# Altium integrated library WENSHI.IntLib: 64 symbols
Pins are listed as number, name and electrical type; pins without a type are passive.

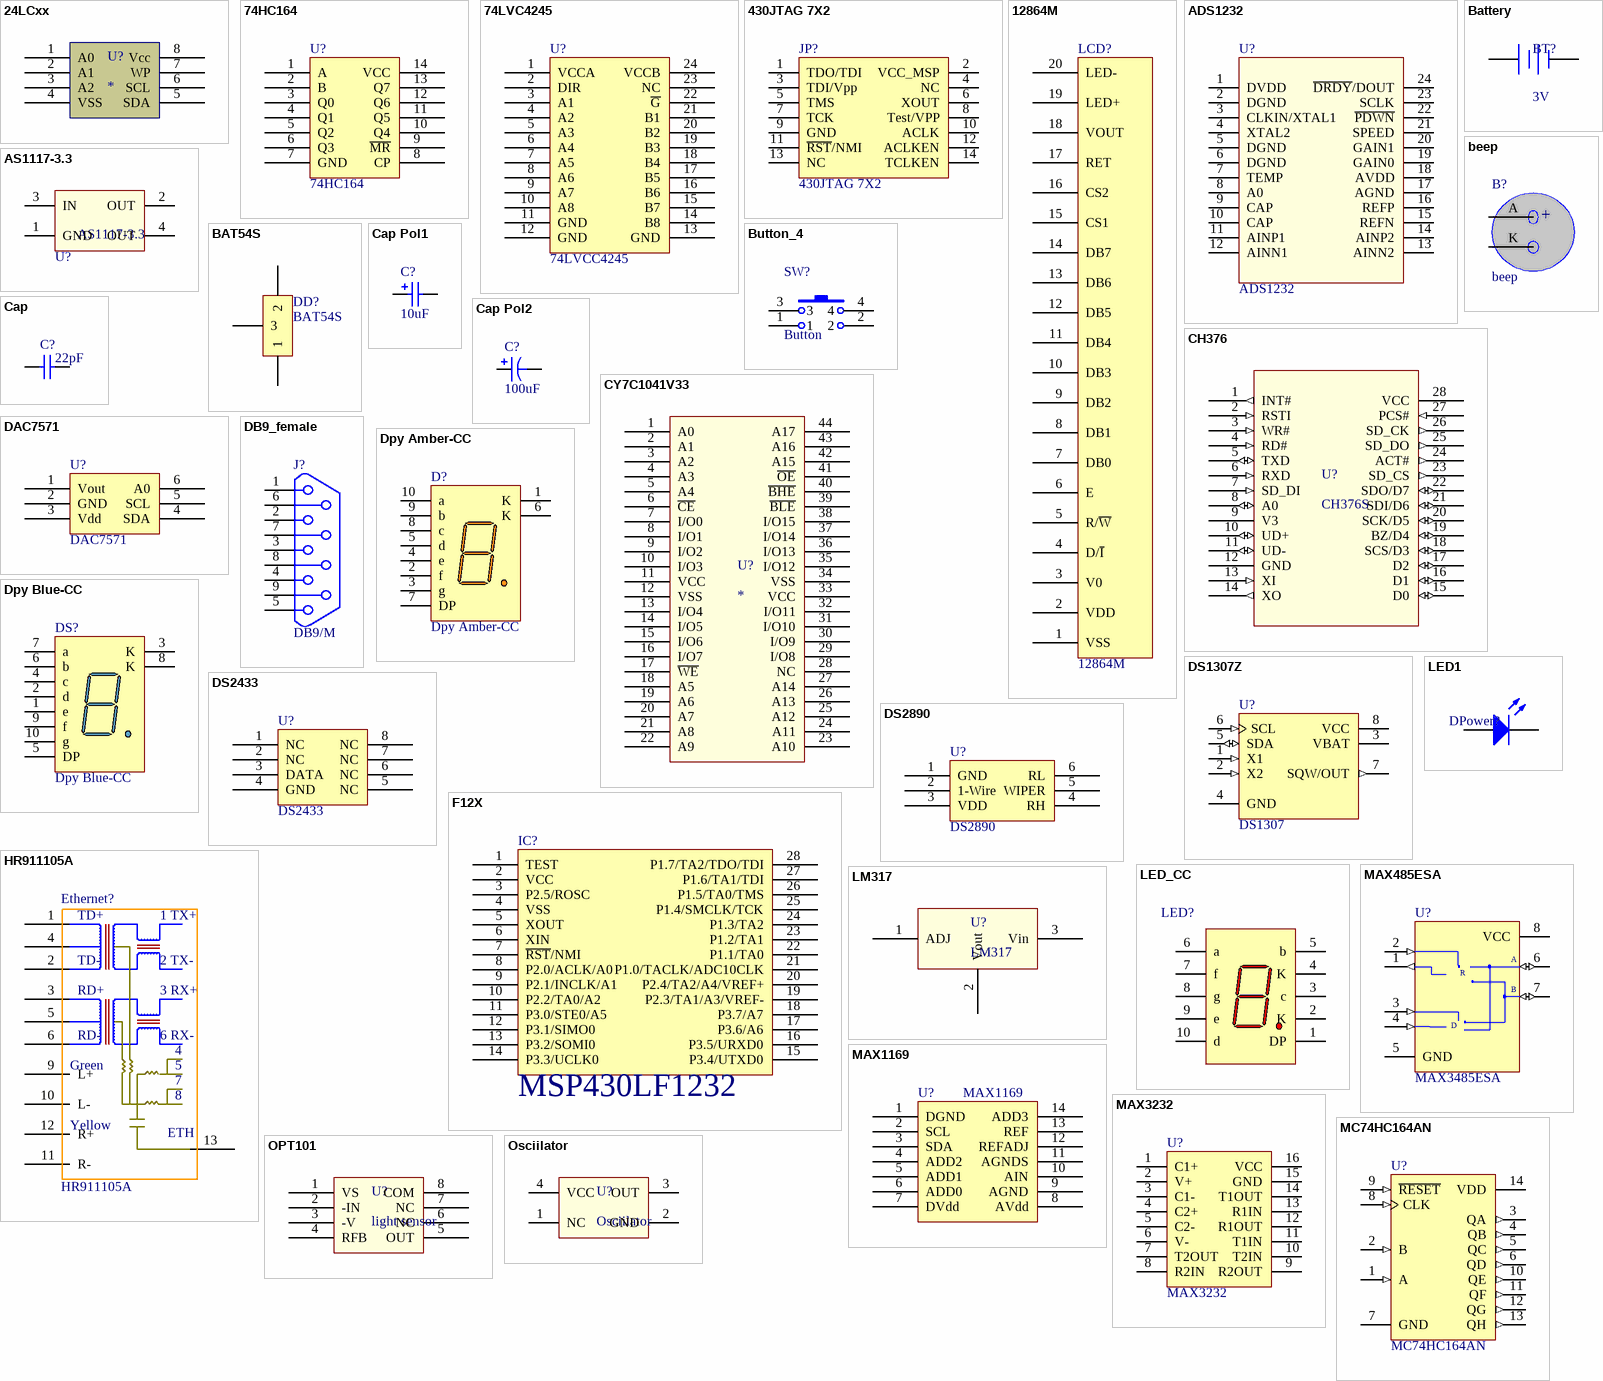
[diagram p0: symbols 24LCxx to Osciilator]

## 24LCxx
designator U?
24LCxx
footprint DIP-8
pins: 1 A0, 2 A1, 3 A2, 4 VSS, 5 SDA, 6 SCL, 7 WP, 8 Vcc

## 74HC164
designator U?
footprint D014 (Small Outline; 14 Leads; Body Width 3.9 mm; Pitch 1.27 mm)
footprint D014 (Small Outline; 14 Leads; Body Width 3.9 mm; Pitch 1.27 mm)
pins: 1 A, 2 B, 3 Q0, 4 Q1, 5 Q2, 6 Q3, 7 GND, 8 CP, 9 ~{MR}, 10 Q4, 11 Q5, 12 Q6, 13 Q7, 14 VCC

## 74LVC4245
designator U?, comment 74LVCC4245
footprint My_SSO-G24/C6.8
pins: 1 VCCA, 2 DIR, 3 A1, 4 A2, 5 A3, 6 A4, 7 A5, 8 A6, 9 A7, 10 A8, 11 GND, 12 GND, 13 GND, 14 B8, 15 B7, 16 B6, 17 B5, 18 B4, 19 B3, 20 B2, 21 B1, 22 ~{G}, 23 NC, 24 VCCB

## 430JTAG 7X2
designator JP?
Header, 7-Pin, Dual row; Revision: 17-Jul-2002: Re-released for DXP Platform.; Publisher: Altium Limited
footprint MyHDR2X7
signal-integrity model Connector
pins: 1 TDO/TDI, 2 VCC_MSP, 3 TDI/Vpp, 4 NC, 5 TMS, 6 XOUT, 7 TCK, 8 Test/VPP, 9 GND, 10 ACLK, 11 ~{RST}/NMI, 12 ACLKEN, 13 NC, 14 TCLKEN

## 12864M
designator LCD?
footprint MY12864
pins: 1 VSS, 2 VDD, 3 V0, 4 D/~{I}, 5 R/~{W}, 6 E, 7 DB0, 8 DB1, 9 DB2, 10 DB3, 11 DB4, 12 DB5, 13 DB6, 14 DB7, 15 CS1, 16 CS2, 17 RET, 18 VOUT, 19 LED+, 20 LED-

## ADS1232
designator U?
footprint SOP24
pins: 1 DVDD, 2 DGND, 3 CLKIN/XTAL1, 4 XTAL2, 5 DGND, 6 DGND, 7 TEMP, 8 A0, 9 CAP, 10 CAP, 11 AINP1, 12 AINN1, 13 AINN2, 14 AINP2, 15 REFN, 16 REFP, 17 AGND, 18 AVDD, 19 GAIN0, 20 GAIN1, 21 SPEED, 22 ~{PDWN}, 23 SCLK, 24 ~{DRDY}/DOUT

## AS1117-3.3
designator U?
footprint SOT-223
pins: 1 GND, 2 OUT, 3 IN, 4 OUT

## BAT54S
designator DD?
footprint Model Name (Footprint not found)
footprint SO-G3
pins: 1, 2, 3

## Battery
designator BT?, comment 3V
Multicell Battery; Published: 24-Mar-1999; Revision: July-2002: Re-released for DXP Platform.; Publisher: Altium Limited
footprint BTAY
footprint BigBattery (KKK measured)
pins: 1 +, 2 -

## beep
designator B?
footprint buzzer
pins: A, K
text: +

## Button_4
designator SW?, comment Button
footprint SW-6
pins: 1, 2, 3, 4

## Cap
designator C?  value 22pF  (hidden comment: Cap)
Capacitor; Published: 8-Jun-2000; Revision: July-2002: Re-released for DXP Platform.; Publisher: Altium Limited
footprint C0805
simulation model CAP (Capacitor)
signal-integrity model Cap
footprint CAPR5.08-7.8X3.2
footprint CAPR2.54-5.1X3.2
pins: 1, 2

## Cap Pol1
designator C?  value 10uF  (hidden comment: Cap Pol1)
Polarized Capacitor (Radial); Published: 8-Jun-2000; Revision: July-2002: Re-released for DXP Platform.; Publisher: Altium Limited
footprint C5.3
simulation model CAP (Capacitor)
signal-integrity model Cap Pol
footprint CAPPR1.5-4X5
footprint CAPPR1.27-1.96X4.06
footprint CAPPR2-5X6.8
footprint CAPPR5-5X5
footprint CAPPR7.5-16X35
pins: 1, 2

## Cap Pol2
designator C?  value 100uF  (hidden comment: Cap Pol2)
Polarized Capacitor (Axial); Published: 8-Jun-2000; LatestRevisionDate: 17-Jul-2002; LatestRevisionNote: Re-released for DXP Platform.; Publisher: Altium Limited
footprint POLAR0.8 (Polarized Capacitor (Axial); 2 Leads)
footprint CAPPA14.05-10.5x6.3 (Capacitor, Axial, Polarised; Body 10.5 x 6.3 mm (LxDia. max), Lead Dia. 0.6 mm (typ))
footprint CAPPA23.6-18.5x8.5 (Capacitor, Axial, Polarised; Body 18.5 x 8.5 mm (LxDia. max), Lead Dia. 0.8 mm (typ))
footprint CAPPA31.6-26.5x12.5 (Capacitor, Axial, Polarised; Body 26.5 x 12.5 mm (LxDia. max), Lead Dia. 0.8 mm (typ))
footprint CAPPA35.6-30.5x18.5 (Capacitor, Axial, Polarised; Body 30.5 x 18.5 mm (LxDia. max), Lead Dia. 0.8 mm (typ))
footprint CAPPA46.1-41x21.5 (Capacitor, Axial, Polarised; Body 41 x 21.5 mm (LxDia. max), Lead Dia. 0.8 mm (typ))
simulation model CAP (Capacitor)
signal-integrity model Cap Pol
footprint CE3/6/.6
footprint CE2/6/.5
pins: 1, 2
1 alternate drawing of the same symbol

## CH376
designator U?, comment CH376S
footprint SOP28
pins: 1 INT# (out), 2 RSTI (in), 3 WR# (in), 4 RD# (in), 5 TXD (io), 6 RXD (in), 7 SD_DI (in), 8 A0 (io), 9 V3 (power), 10 UD+ (io), 11 UD- (io), 12 GND (power), 13 XI (in), 14 XO (out), 15 D0 (io), 16 D1 (io), 17 D2 (io), 18 SCS/D3 (io), 19 BZ/D4 (io), 20 SCK/D5 (io), 21 SDI/D6 (io), 22 SDO/D7 (io), 23 SD_CS (out), 24 ACT# (out), 25 SD_DO (out), 26 SD_CK (out), 27 PCS# (in), 28 VCC (power)

## CY7C1041V33
designator U?
footprint SOP44
pins: 1 A0, 2 A1, 3 A2, 4 A3, 5 A4, 6 ~{CE}, 7 I/O0, 8 I/O1, 9 I/O2, 10 I/O3, 11 VCC, 12 VSS, 13 I/O4, 14 I/O5, 15 I/O6, 16 I/O7, 17 ~{WE}, 18 A5, 19 A6, 20 A7, 21 A8, 22 A9, 23 A10, 24 A11, 25 A12, 26 A13, 27 A14, 28 NC, 29 I/O8, 30 I/O9, 31 I/O10, 32 I/O11, 33 VCC, 34 VSS, 35 I/O12, 36 I/O13, 37 I/O14, 38 I/O15, 39 ~{BLE}, 40 ~{BHE}, 41 ~{OE}, 42 A15, 43 A16, 44 A17

## DAC7571
designator U?
footprint SOT23-6 (SOT-457/SC-74; 6 Leads; Body 3 x 3 mm, inc. leads (LxW max))
pins: 1 Vout, 2 GND, 3 Vdd, 4 SDA, 5 SCL, 6 A0

## DB9_female
designator J?, comment DB9/M
footprint DB9_female (Connector; D Subminiature; 9 Position; Right Angle; Pitch 1.385 mm)
pins: 1, 2, 3, 4, 5, 6, 7, 8, 9

## Dpy Amber-CC
designator D?
7.6 mm Black Surface 7-Segment Display: CC, RH DP; Package Information: Latest Revision: 19-Feb-2002; Min. Intensity: 354 ucd; Note: IF = 5 mA; Colour: Orange; Note: Pins 1 and 6 are redundant Cathodes.; Datasheet: Latest Revision: 19-Feb-2002; Package Reference: A; Publisher: Altium Limited
footprint LEDDIP-10/C5.08
simulation model AMBERCC (Spice Subcircuit)
pins: 1 K "Cathode", 2 f "Anode", 3 g "Anode", 4 e "Anode", 5 d "Anode", 6 K "Cathode", 7 DP "Anode", 8 c "Anode", 9 b "Anode", 10 a "Anode"

## Dpy Blue-CC
designator DS?
14.2 mm General Purpose Blue 7-Segment Display: CC, RH DP, Gray Surface; MinimumIntensity: 2020 ucd; Note: IF = 10 mA; Published: 8-Jun-2000; LatestRevisionDate: 17-Dec-2003; LatestRevisionNote: Schematic revised, PCB Footprint replaced.; DatasheetDocument: 24-Sep-2002; PackageDocument: 24-Sep-2002; PackageReference: H; Publisher: Altium Limited; Colour: Blue; ComponentLink1Description: Manufacturer Link; ComponentLink1URL: http://www.agilent.com/
footprint LEDDIP_10/38GND (LED, 7-Segment Display, 14.2 mm, RHD; 10 Leads; Row Space 15.24 mm; Pitch 2.54 mm)
simulation model HDSP_503B (SUBCKT)
pins: 1 e "Anode", 2 d "Anode", 3 K "Common Cathode", 4 c "Anode", 5 DP "Anode", 6 b "Anode", 7 a "Anode", 8 K "Common Cathode", 9 f "Anode", 10 g "Anode"

## DS1307Z
designator U?, comment DS1307
64 X 8 Serial Real-Time Clock; Package Information: Latest Revision: 1999; Published: 13-Oct-2000; Revision: 17-Jul-2002: Re-released for DXP Platform.; Datasheet: Latest Revision: 10-Aug-1999; Package Reference: SOIC8N; Publisher: Altium Limited
footprint SOIC8N (Small Outline; 8 Leads; Body Width 3.9 mm; Pitch 1.27 mm)
pins: 1 X1 (in), 2 X2 (in), 3 VBAT (power), 4 GND (power), 5 SDA (io), 6 SCL (in), 7 SQW/OUT (out), 8 VCC (power)

## DS2433
designator U?
footprint SOIC8W (Small Outline; 8 Leads; Body Width 5.3 mm; Pitch 1.27 mm)
pins: 1 NC, 2 NC, 3 DATA, 4 GND, 5 NC, 6 NC, 7 NC, 8 NC

## DS2890
designator U?
1-Wire Digital Potentiometer,6-pin TSOC; Value: 100K
footprint TSOC6 (Small Outline; 6 C-Bend Leads; Body Width 3.8 mm; Pitch 1.27 mm)
pins: 1 GND, 2 1-Wire, 3 VDD, 4 RH, 5 WIPER, 6 RL

## F12X
designator IC?, comment MSP430LF1232
footprint PW028forMy1232
pins: 1 TEST, 2 VCC, 3 P2.5/ROSC, 4 VSS, 5 XOUT, 6 XIN, 7 ~{RST}/NMI, 8 P2.0/ACLK/A0, 9 P2.1/INCLK/A1, 10 P2.2/TA0/A2, 11 P3.0/STE0/A5, 12 P3.1/SIMO0, 13 P3.2/SOMI0, 14 P3.3/UCLK0, 15 P3.4/UTXD0, 16 P3.5/URXD0, 17 P3.6/A6, 18 P3.7/A7, 19 P2.3/TA1/A3/VREF-, 20 P2.4/TA2/A4/VREF+, 21 P1.0/TACLK/ADC10CLK, 22 P1.1/TA0, 23 P1.2/TA1, 24 P1.3/TA2, 25 P1.4/SMCLK/TCK, 26 P1.5/TA0/TMS, 27 P1.6/TA1/TDI, 28 P1.7/TA2/TDO/TDI

## HR911105A
designator Ethernet?
footprint HR911105A
pins: 1, 2, 3, 4, 5, 6, 9 L+, 10 L-, 11 R-, 12 R+, 13
text: TD+; 1 TX+; TD-; 2 TX-; RD+; 3 RX+; RD-; 6 RX-; Green; 7; 8; Yellow; ETH

## LED1
designator DPower?  (value not drawn)
Typical RED GaAs LED; Published: 8-Jun-2000; LatestRevisionDate: 08-Jul-2005; LatestRevisionNote: Mech Layer 1 removed.; PackageReference: LED-1; Publisher: Altium Limited
footprint LED
simulation model LED1 (Diode)
pins: 1 A, 2 K

## LED_CC
designator LED?, comment LED  (value not drawn)
footprint LEDDIP-10/C5.31
footprint led7x11
pins: 1 DP "Anode", 2 K "Cathode", 3 c "Anode", 4 K "Cathode", 5 b "Anode", 6 a "Anode", 7 f "Anode", 8 g "Anode", 9 e "Anode", 10 d "Anode"

## LM317
designator U?
footprint TO-220
pins: 1 ADJ (power), 2 Vout (power), 3 Vin (power)

## MAX485ESA
designator U?, comment MAX3485ESA
Low-Power, Slew-Rate-Limited RS-485/RS-422 Transceiver; Code - JEDEC: MS-012-AA; Code - IPC: SO8; Published: 16-Jan-2001; Revision: 17-Jul-2002: Re-released for DXP Platform.; Datasheet: Latest Revision: Feb-1996; Package Reference: NSO8; Publisher: Altium Limited
footprint NSO8 (Small Outline; 8 Leads; Body Width 3.9 mm; Pitch 1.27 mm)
pins: 1 RO (out), 2 ~{RE} (in), 3 DE (in), 4 DI (in), 5 GND (power), 6 A (io), 7 B (io), 8 VCC (power)
text: R; D

## MAX1169
designator U?
58.6ksps, 16-Bit, / 2-Wire Serial ADC in a 14-Pin TSSOP
footprint TSSOP14 (Shrink Small Outline; 14 Leads; Body Width 4.4 mm; Pitch 0.65 mm)
pins: 1 DGND, 2 SCL, 3 SDA, 4 ADD2, 5 ADD1, 6 ADD0, 7 DVdd, 8 AVdd, 9 AGND, 10 AIN, 11 AGNDS, 12 REFADJ, 13 REF, 14 ADD3

## MAX3232
designator U?
footprint SOP16
pins: 1 C1+, 2 V+, 3 C1-, 4 C2+, 5 C2-, 6 V-, 7 T2OUT, 8 R2IN, 9 R2OUT, 10 T2IN, 11 T1IN, 12 R1OUT, 13 R1IN, 14 T1OUT, 15 GND, 16 VCC

## MC74HC164AN
designator U?
8-Bit Serial Input / Parallel-Output Shift Register; Package Information: Latest Revision: 1995; Published: 15-Apr-2002; Datasheet: Latest Revision: Mar-2000; Package Reference: 646-06; Publisher: Altium Limited
footprint D14T3-1
signal-integrity model MC74HC164AN
pins: 1 A (in), 2 B (in), 3 QA (out), 4 QB (out), 5 QC (out), 6 QD (out), 7 GND (power), 8 CLK (in), 9 ~{RESET} (in), 10 QE (out), 11 QF (out), 12 QG (out), 13 QH (out), 14 VDD (power)

## OPT101
designator U?, comment light sensor
OPT101
footprint DIP-8
pins: 1 VS (power), 2 -IN (power), 3 -V (power), 4 RFB (power), 5 OUT (power), 6 NC (power), 7 NC (power), 8 COM (power)

## Osciilator
designator U?
footprint Oscillator
pins: 1 NC, 2 GND, 3 OUT, 4 VCC

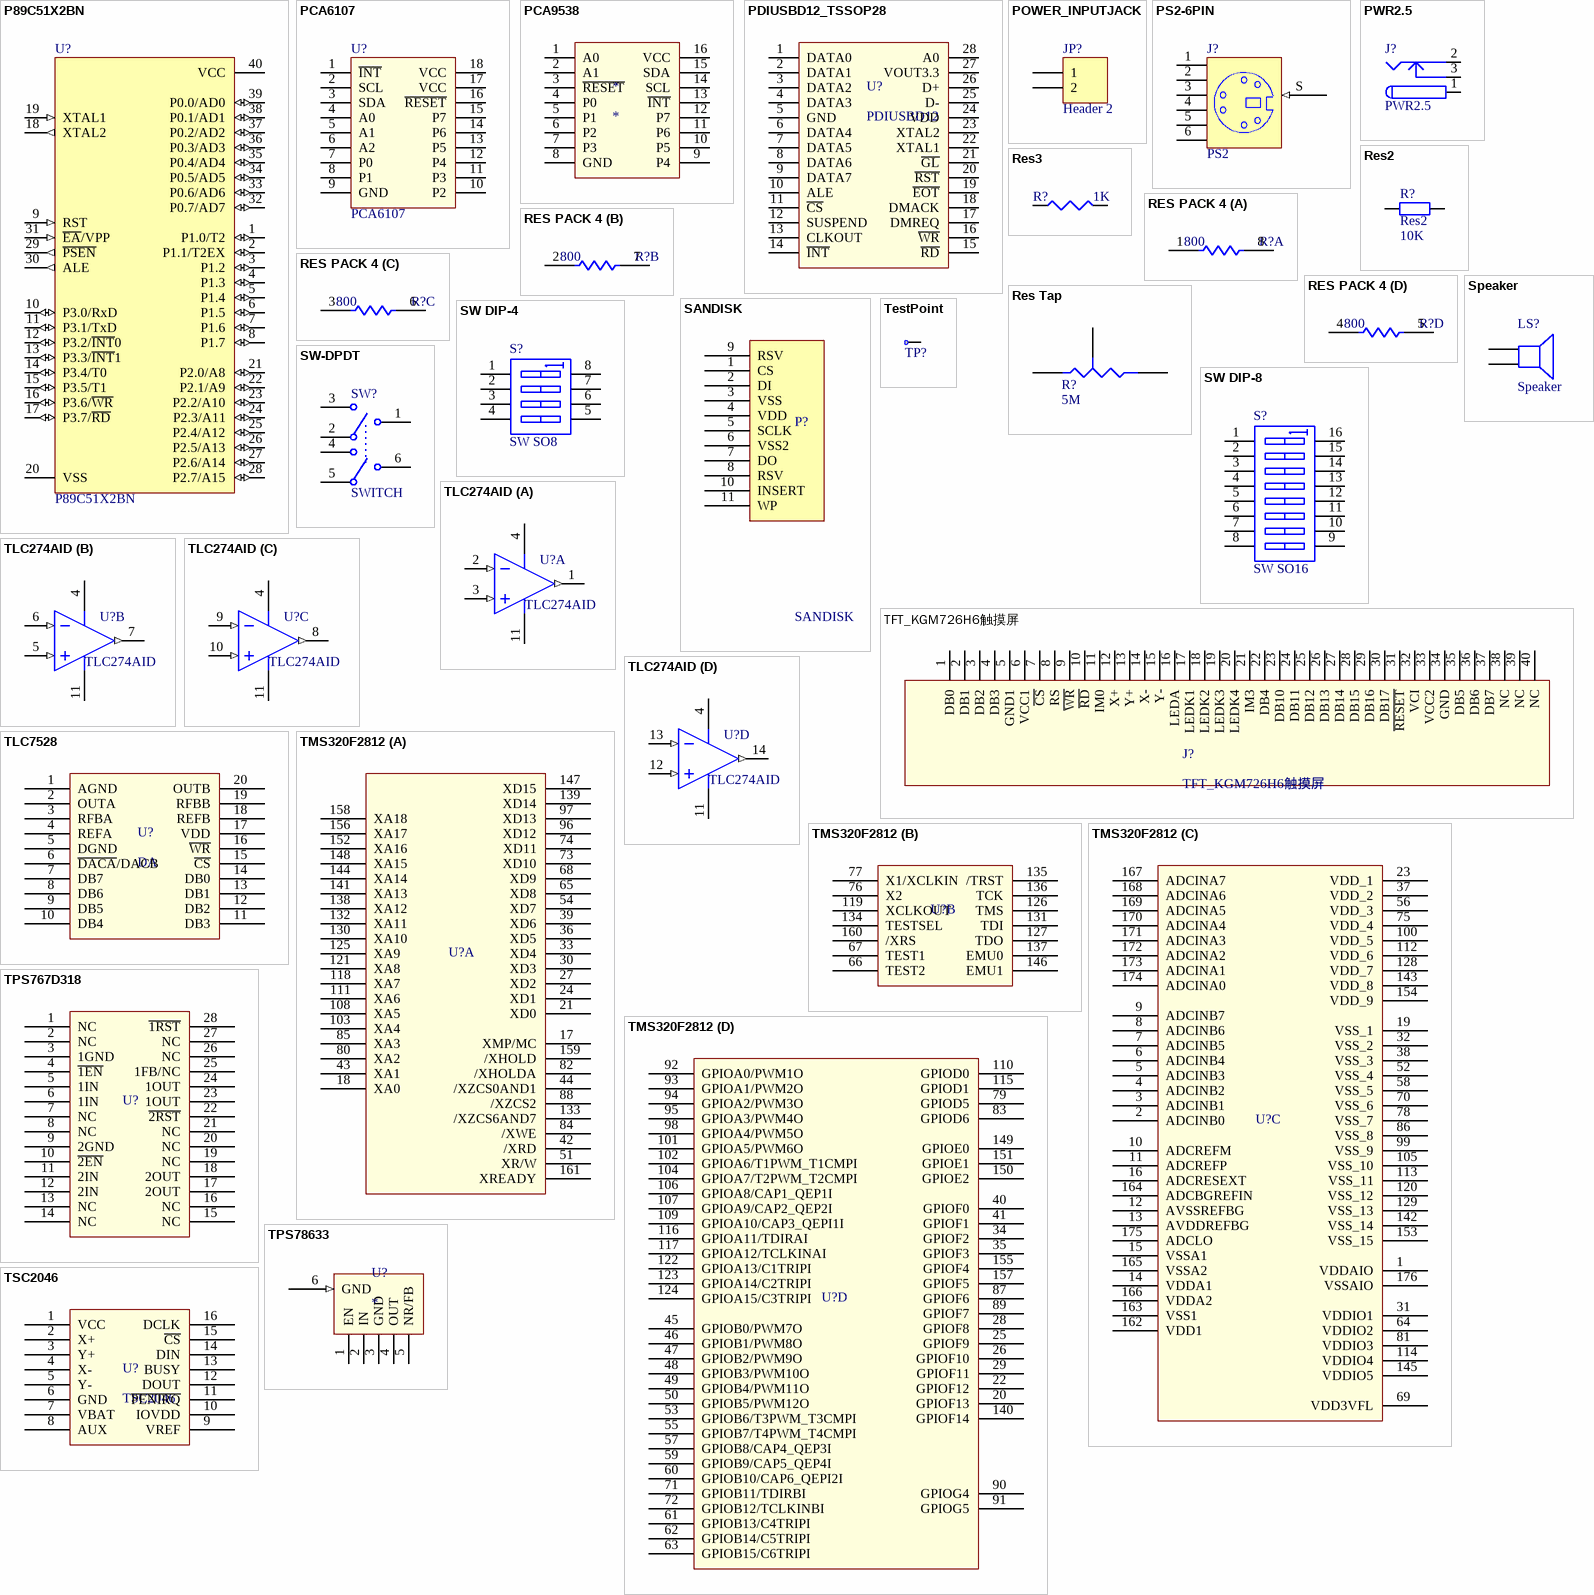
[diagram p1: symbols P89C51X2BN to TSC2046]

## P89C51X2BN
designator U?
80C51 8-Bit Flash Microcontroller Family, 4 kB Flash; Package Information: Latest Revision: Aug-2000; Code - JEDEC: MO-015; Published: 21-May-2003; Datasheet: Latest Revision: 5-Jun-2002; Package Reference: SOT129-1; Publisher: Altium Limited
footprint SOT129-1 (Footprint not found)
pins: 1 P1.0/T2 (io), 2 P1.1/T2EX (io), 3 P1.2 (io), 4 P1.3 (io), 5 P1.4 (io), 6 P1.5 (io), 7 P1.6 (io), 8 P1.7 (io), 9 RST (in), 10 P3.0/RxD (io), 11 P3.1/TxD (io), 12 P3.2/~{INT}0 (io), 13 P3.3/~{INT}1 (io), 14 P3.4/T0 (io), 15 P3.5/T1 (io), 16 P3.6/~{WR} (io), 17 P3.7/~{RD} (io), 18 XTAL2 (out), 19 XTAL1 (in), 20 VSS (power), 21 P2.0/A8 (io), 22 P2.1/A9 (io), 23 P2.2/A10 (io), 24 P2.3/A11 (io), 25 P2.4/A12 (io), 26 P2.5/A13 (io), 27 P2.6/A14 (io), 28 P2.7/A15 (io), 29 ~{PSEN} (out), 30 ALE (out), 31 ~{EA}/VPP (in), 32 P0.7/AD7 (io), 33 P0.6/AD6 (io), 34 P0.5/AD5 (io), 35 P0.4/AD4 (io), 36 P0.3/AD3 (io), 37 P0.2/AD2 (io), 38 P0.1/AD1 (io), 39 P0.0/AD0 (io), 40 VCC (power)

## PCA6107
designator U?
footprint SOP18
pins: 1 ~{INT}, 2 SCL, 3 SDA, 4 A0, 5 A1, 6 A2, 7 P0, 8 P1, 9 GND, 10 P2, 11 P3, 12 P4, 13 P5, 14 P6, 15 P7, 16 ~{RESET}, 17 VCC, 18 VCC

## PCA9538
designator *
pins: 1 A0, 2 A1, 3 ~{RESET}, 4 P0, 5 P1, 6 P2, 7 P3, 8 GND, 9 P4, 10 P5, 11 P6, 12 P7, 13 ~{INT}, 14 SCL, 15 SDA, 16 VCC

## PDIUSBD12_TSSOP28
designator U?, comment PDIUSBD12
USB slave
footprint TSOP28
pins: 1 DATA0, 2 DATA1, 3 DATA2, 4 DATA3, 5 GND, 6 DATA4, 7 DATA5, 8 DATA6, 9 DATA7, 10 ALE, 11 ~{CS}, 12 SUSPEND, 13 CLKOUT, 14 ~{INT}, 15 ~{RD}, 16 ~{WR}, 17 DMREQ, 18 DMACK, 19 ~{EOT}, 20 ~{RST}, 21 ~{GL}, 22 XTAL1, 23 XTAL2, 24 VDD, 25 D-, 26 D+, 27 VOUT3.3, 28 A0

## POWER_INPUTJACK
designator JP?, comment Header 2
Header, 2-Pin; Revision: 17-Jul-2002: Re-released for DXP Platform.; Publisher: Altium Limited
footprint DCJACK
signal-integrity model Connector
pins: 1, 2

## PS2-6PIN
designator J?, comment PS2
6 Pin Through Hole PS2 Socket (Kycon P/N); Published: 17-Dec-2003; Publisher: Altium Limited
footprint MyPS2-6PIN
signal-integrity model Connector
pins: 1, 2, 3, 4, 5, 6, S (in)

## PWR2.5
designator J?
Low Voltage Power Supply Connector; Published: 17-Dec-2003; DatasheetDocument: 09-May-2002; Publisher: Altium Limited; ComponentLink1Description: Manufacturer Link; ComponentLink1URL: http://domino.kycon.com/internet/Products.html
footprint DCJACK
signal-integrity model Connector
pins: 1 (power), 2 (power), 3 (power)

## Res2
designator R?  value 10K
Resistor; Published: 8-Jun-2000; Revision: July-2002: Re-released for DXP Platform.; Publisher: Altium Limited
footprint c0805
simulation model RESISTOR (Resistor)
signal-integrity model Res
pins: 1, 2
1 alternate drawing of the same symbol

## Res3
designator R?  value 1K  (hidden comment: Res3)
Resistor; Published: 8-Jun-2000; Revision: July-2002: Re-released for DXP Platform.; Publisher: Altium Limited
footprint C1608-0603 (Resistor; 2 Leads)
simulation model RESISTOR (Resistor)
signal-integrity model Res
footprint CR3225-1210
footprint CR5025-2010
footprint CR6332-2512
pins: 1, 2
1 alternate drawing of the same symbol

## RES PACK 4
designator R?  value 800  (hidden comment: RES PACK 4)
Resistor Array - Parts; Code - JEDEC: MS-012-AC; Code - IPC: SO16; Published: 24-Mar-1999; Revision: July-2002: Re-released for DXP Platform.; Publisher: Altium Limited
footprint SOP8
simulation model RESISTOR (Resistor)
signal-integrity model Res Pack
part A pins: 1, 8
part B pins: 2, 7
part C pins: 3, 6
part D pins: 4, 5

## Res Tap
designator R?  value 5M  (hidden comment: Res Tap)
Tapped Resistor; Set Position: 0.5; Published: 24-Mar-1999; Revision: July-2002: Re-released for DXP Platform.; Publisher: Altium Limited
footprint RVAR
simulation model POT (Potentiometer)
signal-integrity model Res Tap
pins: 1 A, 2 B, 3 TAP
1 alternate drawing of the same symbol

## SANDISK
designator P?
footprint SDCARD
pins: 1 CS, 2 DI, 3 VSS, 4 VDD, 5 SCLK, 6 VSS2, 7 DO, 8 RSV, 9 RSV, 10 INSERT, 11 WP

## Speaker
designator LS?
Loudspeaker; Manufacturer: Generic Components; Published: 1999
footprint FMQ
pins: 1, 2

## SW DIP-4
designator S?, comment SW SO8
DIP Switch; Code - JEDEC: MS-012-AA; Published: 24-Mar-1999; Revision: July-2002: Re-released for DXP Platform.; Publisher: Altium Limited; Code - IPC: SO8
footprint SW-DIP2x4
simulation model dpsw4 (Spice Subcircuit)
pins: 1 A1, 2 A2, 3 A3, 4 A4, 5 B4, 6 B3, 7 B2, 8 B1

## SW DIP-8
designator S?, comment SW SO16
DIP Switch; Published: 24-Mar-1999; Revision: July-2002: Re-released for DXP Platform.; Publisher: Altium Limited
footprint SO-G16
simulation model dpsw8 (Spice Subcircuit)
pins: 1 A1, 2 A2, 3 A3, 4 A4, 5 A5, 6 A6, 7 A7, 8 A8, 9 B8, 10 B7, 11 B6, 12 B5, 13 B4, 14 B3, 15 B2, 16 B1

## SW-DPDT
designator SW?, comment SWITCH
footprint DPDT-6
pins: 1, 2, 3, 4, 5, 6

## TestPoint
designator TP?  (value not drawn)
TespPoint
footprint TESTPOINT
pins: 1 TP

## TFT_KGM726H6触摸屏
designator J?
footprint tft_0.5_37 (529)
pins: 1 DB0, 2 DB1, 3 DB2, 4 DB3, 5 GND1, 6 VCC1, 7 ~{CS}, 8 RS, 9 ~{WR}, 10 ~{RD}, 11 IM0, 12 X+, 13 Y+, 14 X-, 15 Y-, 16 LEDA, 17 LEDK1, 18 LEDK2, 19 LEDK3, 20 LEDK4, 21 IM3, 22 DB4, 23 DB10, 24 DB11, 25 DB12, 26 DB13, 27 DB14, 28 DB15, 29 DB16, 30 DB17, 31 ~{RESET}, 32 VCI, 33 VCC2, 34 GND, 35 DB5, 36 DB6, 37 DB7, 38 NC, 39 NC, 40 NC

## TLC274AID
designator U?
LinCMOS Precision Quad Operational Amplifier; Package Information: Latest Revision: Jan-1998; Published: 15-Apr-2002; Datasheet: Linear Circuits Data Book 1989 Volume 1 (Aug-1988); Package Reference: D014; Publisher: Altium Limited
footprint D014 (Small Outline; 14 Leads; Body Width 3.9 mm; Pitch 1.27 mm)
footprint MyD014
pins on every part: 4 V+ (power), 11 V- (power)
part A pins: 1 OUT (out), 2 IN- (in), 3 IN+ (in)
part B pins: 5 IN+ (in), 6 IN- (in), 7 OUT (out)
part C pins: 8 OUT (out), 9 IN- (in), 10 IN+ (in)
part D pins: 12 IN+ (in), 13 IN- (in), 14 OUT (out)

## TLC7528
designator U?, comment DA
TLC7528
footprint DIP-20
pins: 1 AGND (power), 2 OUTA (power), 3 RFBA (power), 4 REFA (power), 5 DGND (power), 6 ~{DACA}/DACB (power), 7 DB7 (power), 8 DB6 (power), 9 DB5 (power), 10 DB4 (power), 11 DB3 (power), 12 DB2 (power), 13 DB1 (power), 14 DB0 (power), 15 ~{CS} (power), 16 ~{WR} (power), 17 VDD (power), 18 REFB (power), 19 RFBB (power), 20 OUTB (power)

## TMS320F2812
designator U?, comment DSP  (value not drawn)
footprint Quad176_2812
part A pins: 17 XMP/MC, 18 XA0, 21 XD0, 24 XD1, 27 XD2, 30 XD3, 33 XD4, 36 XD5, 39 XD6, 42 /XRD, 43 XA1, 44 /XZCS0AND1, 51 XR/W, 54 XD7, 65 XD8, 68 XD9, 73 XD10, 74 XD11, 80 XA2, 82 /XHOLDA, 84 /XWE, 85 XA3, 88 /XZCS2, 96 XD12, 97 XD13, 103 XA4, 108 XA5, 111 XA6, 118 XA7, 121 XA8, 125 XA9, 130 XA10, 132 XA11, 133 /XZCS6AND7, 138 XA12, 139 XD14, 141 XA13, 144 XA14, 147 XD15, 148 XA15, 152 XA16, 156 XA17, 158 XA18, 159 /XHOLD, 161 XREADY
part B pins: 66 TEST2, 67 TEST1, 76 X2, 77 X1/XCLKIN, 119 XCLKOUT, 126 TMS, 127 TDO, 131 TDI, 134 TESTSEL, 135 /TRST, 136 TCK, 137 EMU0, 146 EMU1, 160 /XRS
part C pins: 1 VDDAIO, 2 ADCINB0, 3 ADCINB1, 4 ADCINB2, 5 ADCINB3, 6 ADCINB4, 7 ADCINB5, 8 ADCINB6, 9 ADCINB7, 10 ADCREFM, 11 ADCREFP, 12 AVSSREFBG, 13 AVDDREFBG, 14 VDDA1, 15 VSSA1, 16 ADCRESEXT, 19 VSS_1, 23 VDD_1, 31 VDDIO1, 32 VSS_2, 37 VDD_2, 38 VSS_3, 52 VSS_4, 56 VDD_3, 58 VSS_5, 64 VDDIO2, 69 VDD3VFL, 70 VSS_6, 75 VDD_4, 78 VSS_7, 81 VDDIO3, 86 VSS_8, 99 VSS_9, 100 VDD_5, 105 VSS_10, 112 VDD_6, 113 VSS_11, 114 VDDIO4, 120 VSS_12, 128 VDD_7, 129 VSS_13, 142 VSS_14, 143 VDD_8, 145 VDDIO5, 153 VSS_15, 154 VDD_9, 162 VDD1, 163 VSS1, 164 ADCBGREFIN, 165 VSSA2, 166 VDDA2, 167 ADCINA7, 168 ADCINA6, 169 ADCINA5, 170 ADCINA4, 171 ADCINA3, 172 ADCINA2, 173 ADCINA1, 174 ADCINA0, 175 ADCLO, 176 VSSAIO
part D pins: 20 GPIOF13, 22 GPIOF12, 25 GPIOF9, 26 GPIOF10, 28 GPIOF8, 29 GPIOF11, 34 GPIOF2, 35 GPIOF3, 40 GPIOF0, 41 GPIOF1, 45 GPIOB0/PWM7O, 46 GPIOB1/PWM8O, 47 GPIOB2/PWM9O, 48 GPIOB3/PWM10O, 49 GPIOB4/PWM11O, 50 GPIOB5/PWM12O, 53 GPIOB6/T3PWM_T3CMPI, 55 GPIOB7/T4PWM_T4CMPI, 57 GPIOB8/CAP4_QEP3I, 59 GPIOB9/CAP5_QEP4I, 60 GPIOB10/CAP6_QEPI2I, 61 GPIOB13/C4TRIPI, 62 GPIOB14/C5TRIPI, 63 GPIOB15/C6TRIPI, 71 GPIOB11/TDIRBI, 72 GPIOB12/TCLKINBI, 79 GPIOD5, 83 GPIOD6, 87 GPIOF6, 89 GPIOF7, 90 GPIOG4, 91 GPIOG5, 92 GPIOA0/PWM1O, 93 GPIOA1/PWM2O, 94 GPIOA2/PWM3O, 95 GPIOA3/PWM4O, 98 GPIOA4/PWM5O, 101 GPIOA5/PWM6O, 102 GPIOA6/T1PWM_T1CMPI, 104 GPIOA7/T2PWM_T2CMPI, 106 GPIOA8/CAP1_QEP1I, 107 GPIOA9/CAP2_QEP2I, 109 GPIOA10/CAP3_QEPI1I, 110 GPIOD0, 115 GPIOD1, 116 GPIOA11/TDIRAI, 117 GPIOA12/TCLKINAI, 122 GPIOA13/C1TRIPI, 123 GPIOA14/C2TRIPI, 124 GPIOA15/C3TRIPI, 140 GPIOF14, 149 GPIOE0, 150 GPIOE2, 151 GPIOE1, 155 GPIOF4, 157 GPIOF5

## TPS767D318
designator U?, comment regulator  (value not drawn)
footprint SOP28 - thin
pins: 1 NC, 2 NC, 3 1GND, 4 ~{1EN}, 5 1IN, 6 1IN, 7 NC, 8 NC, 9 2GND, 10 ~{2EN}, 11 2IN, 12 2IN, 13 NC, 14 NC, 15 NC, 16 NC, 17 2OUT, 18 2OUT, 19 NC, 20 NC, 21 NC, 22 ~{2RST}, 23 1OUT, 24 1OUT, 25 1FB/NC, 26 NC, 27 NC, 28 ~{1RST}

## TPS78633
designator U?
3.3V Power
footprint PSFM_G5
pins: 1 EN, 2 IN, 3 GND, 4 OUT, 5 NR/FB, 6 GND (in)

## TSC2046
designator U?
4 wire resistor-type touch screen controller
footprint TSSOP16
pins: 1 VCC (power), 2 X+ (power), 3 Y+ (power), 4 X- (power), 5 Y- (power), 6 GND (power), 7 VBAT (power), 8 AUX (power), 9 VREF (power), 10 IOVDD (power), 11 ~{PENIRQ} (power), 12 DOUT (power), 13 BUSY (power), 14 DIN (power), 15 ~{CS} (power), 16 DCLK (power)

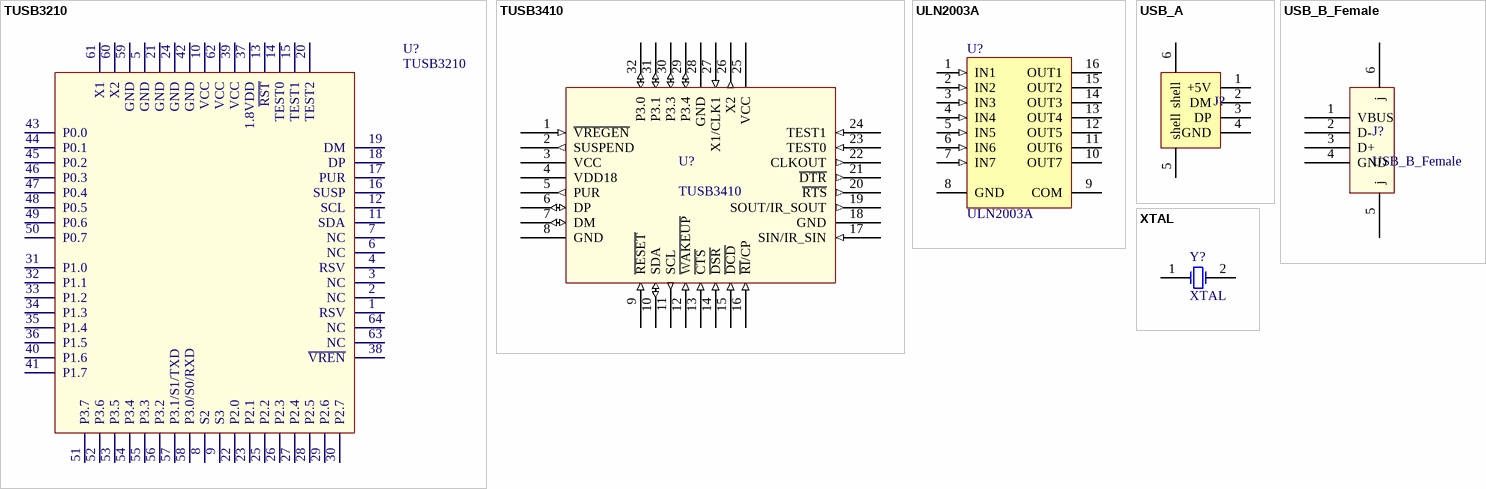
[diagram p2: symbols TUSB3210 to XTAL]

## TUSB3210
designator U?
footprint Quad64
pins: 1 RSV, 2 NC, 3 NC, 4 RSV, 5 GND, 6 NC, 7 NC, 8 S2, 9 S3, 10 VCC, 11 SDA, 12 SCL, 13 ~{RST}, 14 TEST0, 15 TEST1, 16 SUSP, 17 PUR, 18 DP, 19 DM, 20 TEST2, 21 GND, 22 P2.0, 23 P2.1, 24 GND, 25 P2.2, 26 P2.3, 27 P2.4, 28 P2.5, 29 P2.6, 30 P2.7, 31 P1.0, 32 P1.1, 33 P1.2, 34 P1.3, 35 P1.4, 36 P1.5, 37 1.8VDD, 38 ~{VREN}, 39 VCC, 40 P1.6, 41 P1.7, 42 GND, 43 P0.0, 44 P0.1, 45 P0.2, 46 P0.3, 47 P0.4, 48 P0.5, 49 P0.6, 50 P0.7, 51 P3.7, 52 P3.6, 53 P3.5, 54 P3.4, 55 P3.3, 56 P3.2, 57 P3.1/S1/TXD, 58 P3.0/S0/RXD, 59 GND, 60 X2, 61 X1, 62 VCC, 63 NC, 64 NC

## TUSB3410
designator U?
footprint DMC68HC908JL8
pins: 1 ~{VREGEN} (in), 2 SUSPEND (out), 3 VCC (power), 4 VDD18 (power), 5 PUR (out), 6 DP (io), 7 DM (io), 8 GND (power), 9 ~{RESET} (in), 10 SDA (io), 11 SCL (out), 12 ~{WAKEUP} (in), 13 ~{CTS} (in), 14 ~{DSR} (in), 15 ~{DCD} (in), 16 ~{RI}/CP (in), 17 SIN/IR_SIN (in), 18 GND (power), 19 SOUT/IR_SOUT (out), 20 ~{RTS} (out), 21 ~{DTR} (out), 22 CLKOUT (out), 23 TEST0 (in), 24 TEST1 (in), 25 VCC (power), 26 X2 (out), 27 X1/CLK1 (in), 28 GND (power), 29 P3.4 (io), 30 P3.3 (io), 31 P3.1 (io), 32 P3.0 (io)

## ULN2003A
designator U?
High-Voltage, High-Current Darlington Array; Published: 13-Oct-2000; LatestRevisionDate: 06-Jun-2005; LatestRevisionNote: Stylized 3D Model Added.; DatasheetVersion: 1998; PackageVersion: 1998; PackageReference: A16; Publisher: Altium Limited; PackageDescription: DIP; 16 Leads; Row Spacing 7.62 mm; Pitch 2.54 mm; Code_JEDEC: MS-001-BB; ComponentLink1Description: Manufacturer Link; ComponentLink1URL: http://www.allegromicro.com/
footprint DIP-16
3D model A16 (DIP; 16 Leads; Row Spacing 7.62 mm; Pitch 2.54 mm)
pins: 1 IN1 (in), 2 IN2 (in), 3 IN3 (in), 4 IN4 (in), 5 IN5 (in), 6 IN6 (in), 7 IN7 (in), 8 GND (power), 9 COM, 10 OUT7 (oc), 11 OUT6 (oc), 12 OUT5 (oc), 13 OUT4 (oc), 14 OUT3 (oc), 15 OUT2 (oc), 16 OUT1 (oc)

## USB_A
designator J?  (value not drawn)
footprint USB-A_male
footprint USB_A_female
pins: 1 +5V, 2 DM, 3 DP, 4 GND, 5 shell, 6 shell

## USB_B_Female
designator J?
footprint USB_B_Female
pins: 1 VBUS (power), 2 D- (power), 3 D+ (power), 4 GND (power), 5 j (power), 6 j (power)

## XTAL
designator Y?
Crystal Oscillator; Published: 8-Jun-2000; Revision: July-2002: Re-released for DXP Platform.; Publisher: Altium Limited
footprint GJA-M
simulation model XTAL (Spice Subcircuit)
footprint XTAL-32768Hz
pins: 1 OSC1, 2 OSC2